# EAGLE library part MAX13486EELA+T (library MAX13486EELA+T)
RS-422/RS-485 Interface IC Half-Duplex RS-485/RS-422 Transceivers in uDFN Source: Datasheet <https://datasheets.maximintegrated.com/en/ds/MAX13485E-MAX13486E.pdf>
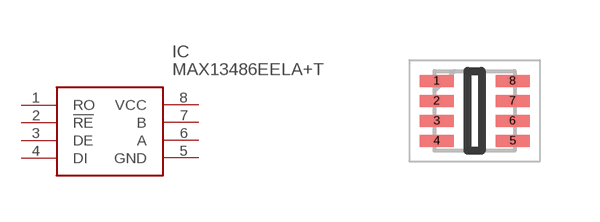
[diagram p0: symbol with the pads of SON50P200X200X80-8N; footprint SON50P200X200X80-8N]

Designator prefix IC

## MAX13486EELA+T (Description: RS-422/RS-485 Interface IC Half-Duplex RS-485/RS-422 Transceivers in uDFN; Height: 0.8mm; Manufacturer_Name: Maxim Integrated; Manufacturer_Part_Number: MAX13486EELA+T; Mouser_Part_Number: 700-MAX13486EELAT; Mouser_Price-Stock: https://www.mouser.co.uk/ProductDetail/Maxim-Integrated/MAX13486EELA%2bT?qs=CDqwynd4ZNrES1JuivO%252Bfw%3D%3D)  [SON50P200X200X80-8N]
1  RO
2  !RE
3  DE
4  DI
5  GND
6  A
7  B
8  VCC

## Footprint SON50P200X200X80-8N (pad centres in mm)
L822+1
smd 0.85 x 0.3: 1 -0.95,0.75; 2 -0.95,0.25; 3 -0.95,-0.25; 4 -0.95,-0.75; 5 0.95,-0.75; 6 0.95,-0.25; 7 0.95,0.25; 8 0.95,0.75